# EAGLE library part 80C592 (library micro-philips)
8051 -compatible 8bit Microcontroller CAN 2.0A
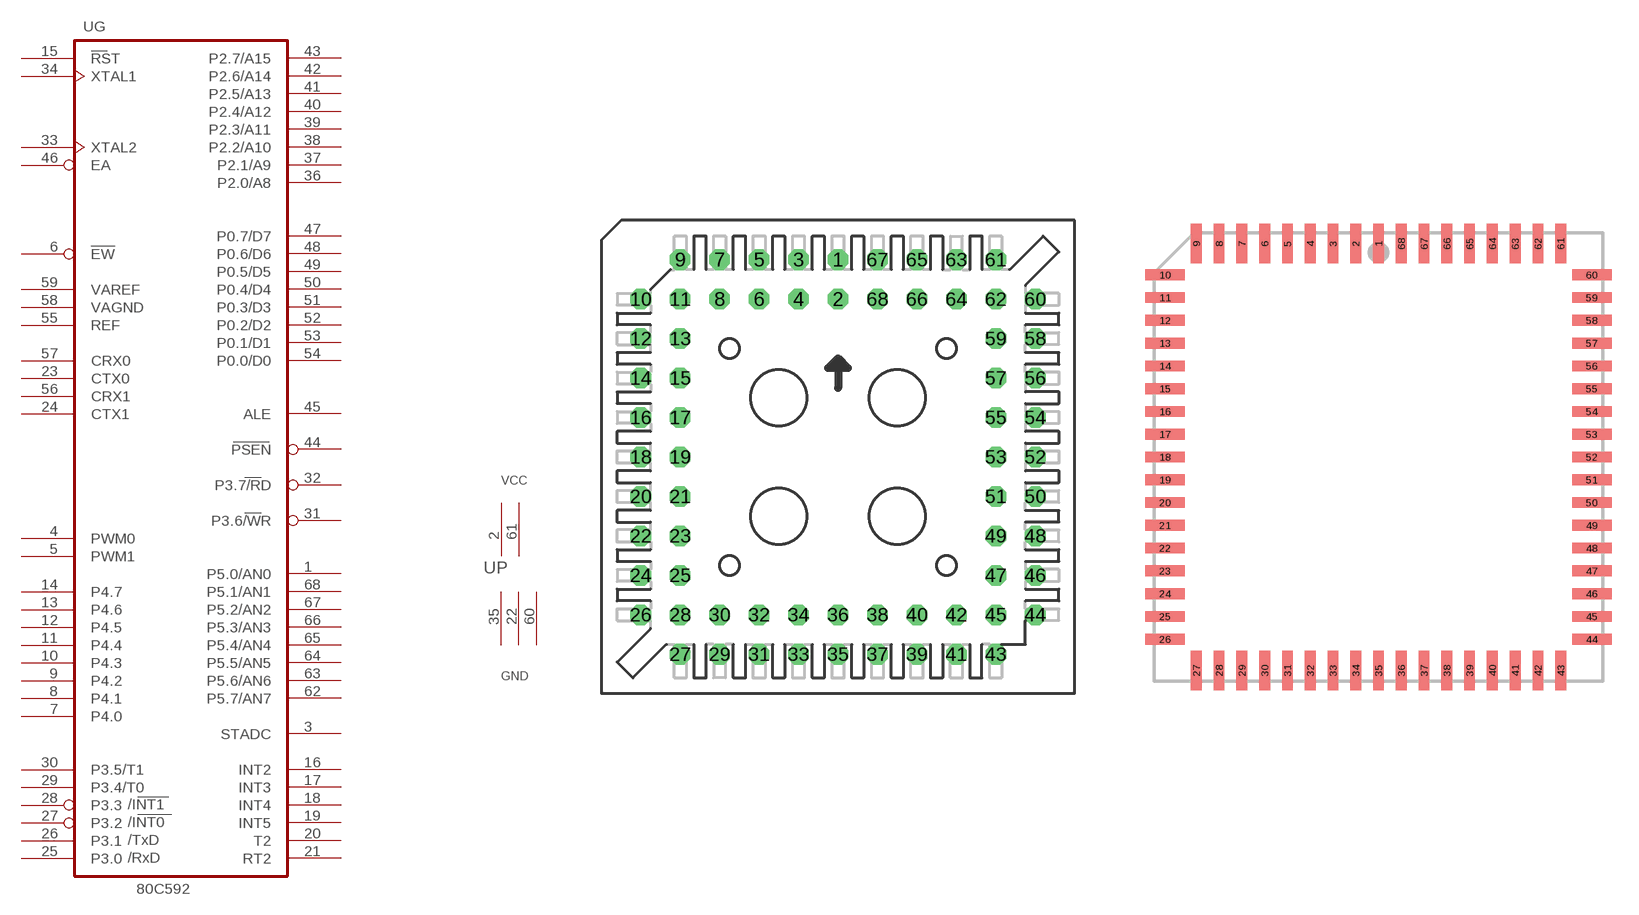
[diagram p17: symbol with the pads of PLCC-S68; footprints PLCC-S68, PLCC68]

Designator prefix U; gates G=8XC592 P=PWR

## 80C592SOCKEL  [PLCC-S68]
1  G:P5.0/AN0
2  P:VCC  pwr
3  G:STADC
4  G:PWM0
5  G:PWM1
6  G:!EW!
7  G:P4.0
8  G:P4.1
9  G:P4.2
10  G:P4.3
11  G:P4.4
12  G:P4.5
13  G:P4.6
14  G:P4.7
15  G:RST  in
16  G:INT2
17  G:INT3
18  G:INT4
19  G:INT5
20  G:T2
21  G:RT2
22  P:CGND  pwr
23  G:CTX0
24  G:CTX1
25  G:P3.0
26  G:P3.1
27  G:P3.2
28  G:P3.3
29  G:P3.4/T0
30  G:P3.5/T1
31  G:P3.6/WR
32  G:P3.7/RD
33  G:XTAL2  in
34  G:XTAL1  in
35  P:GND  pwr
36  G:P2.0/A8
37  G:P2.1/A9
38  G:P2.2/A10
39  G:P2.3/A11
40  G:P2.4/A12
41  G:P2.5/A13
42  G:P2.6/A14
43  G:P2.7/A15
44  G:PSEN  out
45  G:ALE  out
46  G:EA  in
47  G:P0.7/D7
48  G:P0.6/D6
49  G:P0.5/D5
50  G:P0.4/D4
51  G:P0.3/D3
52  G:P0.2/D2
53  G:P0.1/D1
54  G:P0.0/D0
55  G:REF
56  G:CRX1
57  G:CRX0
58  G:VAGND
59  G:VAREF
60  P:AGND  pwr
61  P:AVCC  pwr
62  G:P5.7/AN7
63  G:P5.6/AN6
64  G:P5.5/AN5
65  G:P5.4/AN4
66  G:P5.3/AN3
67  G:P5.2/AN2
68  G:P5.1/AN1

## 80C592SMD  [PLCC68]
Pads as for PLCC-S68

## Footprint PLCC-S68 (pad centres in mm)
Plastic Leaded Chip Carrier Socked
drill 0.813 octagon: 1 0,12.7; 2 0,10.16; 3 -2.54,12.7; 4 -2.54,10.16; 5 -5.08,12.7; 6 -5.08,10.16; 7 -7.62,12.7; 8 -7.62,10.16; 9 -10.16,12.7; 10 -12.7,10.16; 11 -10.16,10.16; 12 -12.7,7.62; 13 -10.16,7.62; 14 -12.7,5.08; 15 -10.16,5.08; 16 -12.7,2.54; 17 -10.16,2.54; 18 -12.7,0; 19 -10.16,0; 20 -12.7,-2.54; 21 -10.16,-2.54; 22 -12.7,-5.08; 23 -10.16,-5.08; 24 -12.7,-7.62; 25 -10.16,-7.62; 26 -12.7,-10.16; 27 -10.16,-12.7; 28 -10.16,-10.16; 29 -7.62,-12.7; 30 -7.62,-10.16; 31 -5.08,-12.7; 32 -5.08,-10.16; 33 -2.54,-12.7; 34 -2.54,-10.16; 35 0,-12.7; 36 0,-10.16; 37 2.54,-12.7; 38 2.54,-10.16; 39 5.08,-12.7; 40 5.08,-10.16; 41 7.62,-12.7; 42 7.62,-10.16; 43 10.16,-12.7; 44 12.7,-10.16; 45 10.16,-10.16; 46 12.7,-7.62; 47 10.16,-7.62; 48 12.7,-5.08; 49 10.16,-5.08; 50 12.7,-2.54; 51 10.16,-2.54; 52 12.7,0; 53 10.16,0; 54 12.7,2.54; 55 10.16,2.54; 56 12.7,5.08; 57 10.16,5.08; 58 12.7,7.62; 59 10.16,7.62; 60 12.7,10.16; 61 10.16,12.7; 62 10.16,10.16; 63 7.62,12.7; 64 7.62,10.16; 65 5.08,12.7; 66 5.08,10.16; 67 2.54,12.7; 68 2.54,10.16

## Footprint PLCC68 (pad centres in mm)
PLASTIC LEADED CHIP CARRIER square
smd 0.6 x 2.2: 1 0,11.9; 2 -1.27,11.9; 3 -2.54,11.9; 4 -3.81,11.9; 5 -5.08,11.9; 6 -6.35,11.9; 7 -7.62,11.9; 8 -8.89,11.9; 9 -10.16,11.9; 27 -10.16,-11.9; 28 -8.89,-11.9; 29 -7.62,-11.9; 30 -6.35,-11.9; 31 -5.08,-11.9; 32 -3.81,-11.9; 33 -2.54,-11.9; 34 -1.27,-11.9; 35 0,-11.9; 36 1.27,-11.9; 37 2.54,-11.9; 38 3.81,-11.9; 39 5.08,-11.9; 40 6.35,-11.9; 41 7.62,-11.9; 42 8.89,-11.9; 43 10.16,-11.9; 61 10.16,11.9; 62 8.89,11.9; 63 7.62,11.9; 64 6.35,11.9; 65 5.08,11.9; 66 3.81,11.9; 67 2.54,11.9; 68 1.27,11.9
smd 2.2 x 0.6: 10 -11.9,10.16; 11 -11.9,8.89; 12 -11.9,7.62; 13 -11.9,6.35; 14 -11.9,5.08; 15 -11.9,3.81; 16 -11.9,2.54; 17 -11.9,1.27; 18 -11.9,0; 19 -11.9,-1.27; 20 -11.9,-2.54; 21 -11.9,-3.81; 22 -11.9,-5.08; 23 -11.9,-6.35; 24 -11.9,-7.62; 25 -11.9,-8.89; 26 -11.9,-10.16; 44 11.9,-10.16; 45 11.9,-8.89; 46 11.9,-7.62; 47 11.9,-6.35; 48 11.9,-5.08; 49 11.9,-3.81; 50 11.9,-2.54; 51 11.9,-1.27; 52 11.9,0; 53 11.9,1.27; 54 11.9,2.54; 55 11.9,3.81; 56 11.9,5.08; 57 11.9,6.35; 58 11.9,7.62; 59 11.9,8.89; 60 11.9,10.16